# EAGLE library part 40-LED (library wg_library)
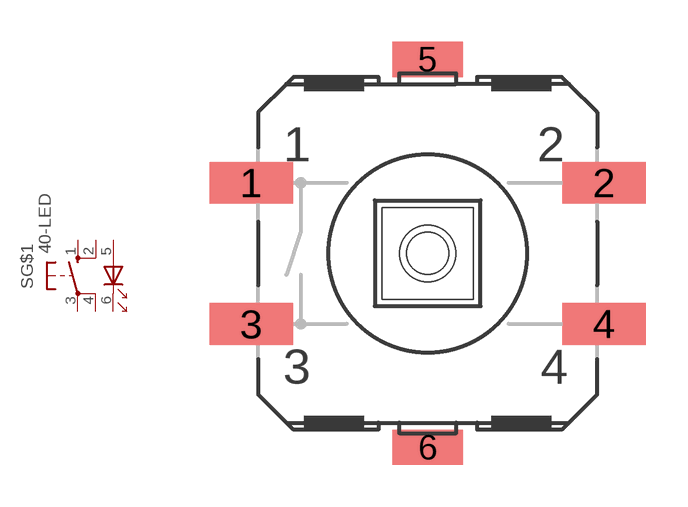
[diagram p14: symbol with the pads of B3F-40XX; footprint B3F-40XX]

Designator prefix S; gates G$1=TS G$2=TS-LED

## 40-LEDSMD  [B3F-40XX]
1  G$1:S  pas
2  G$1:S1  pas
3  G$1:P  pas
4  G$1:P1  pas
5  G$2:A  pas
6  G$2:C  pas

## Footprint B3F-40XX (pad centres in mm)
smd 3 x 1.5: 1 -6.35,2.54; 2 6.35,2.54; 3 -6.35,-2.54; 4 6.35,-2.54
smd 2.54 x 1.27: 5 0,6.985; 6 0,-6.985